# EAGLE library part XC7S6-1FTGB196I (library XC7S6-1FTGB196I)
FPGA - Field Programmable Gate Array XC7S6-1FTGB196I Source: Datasheet
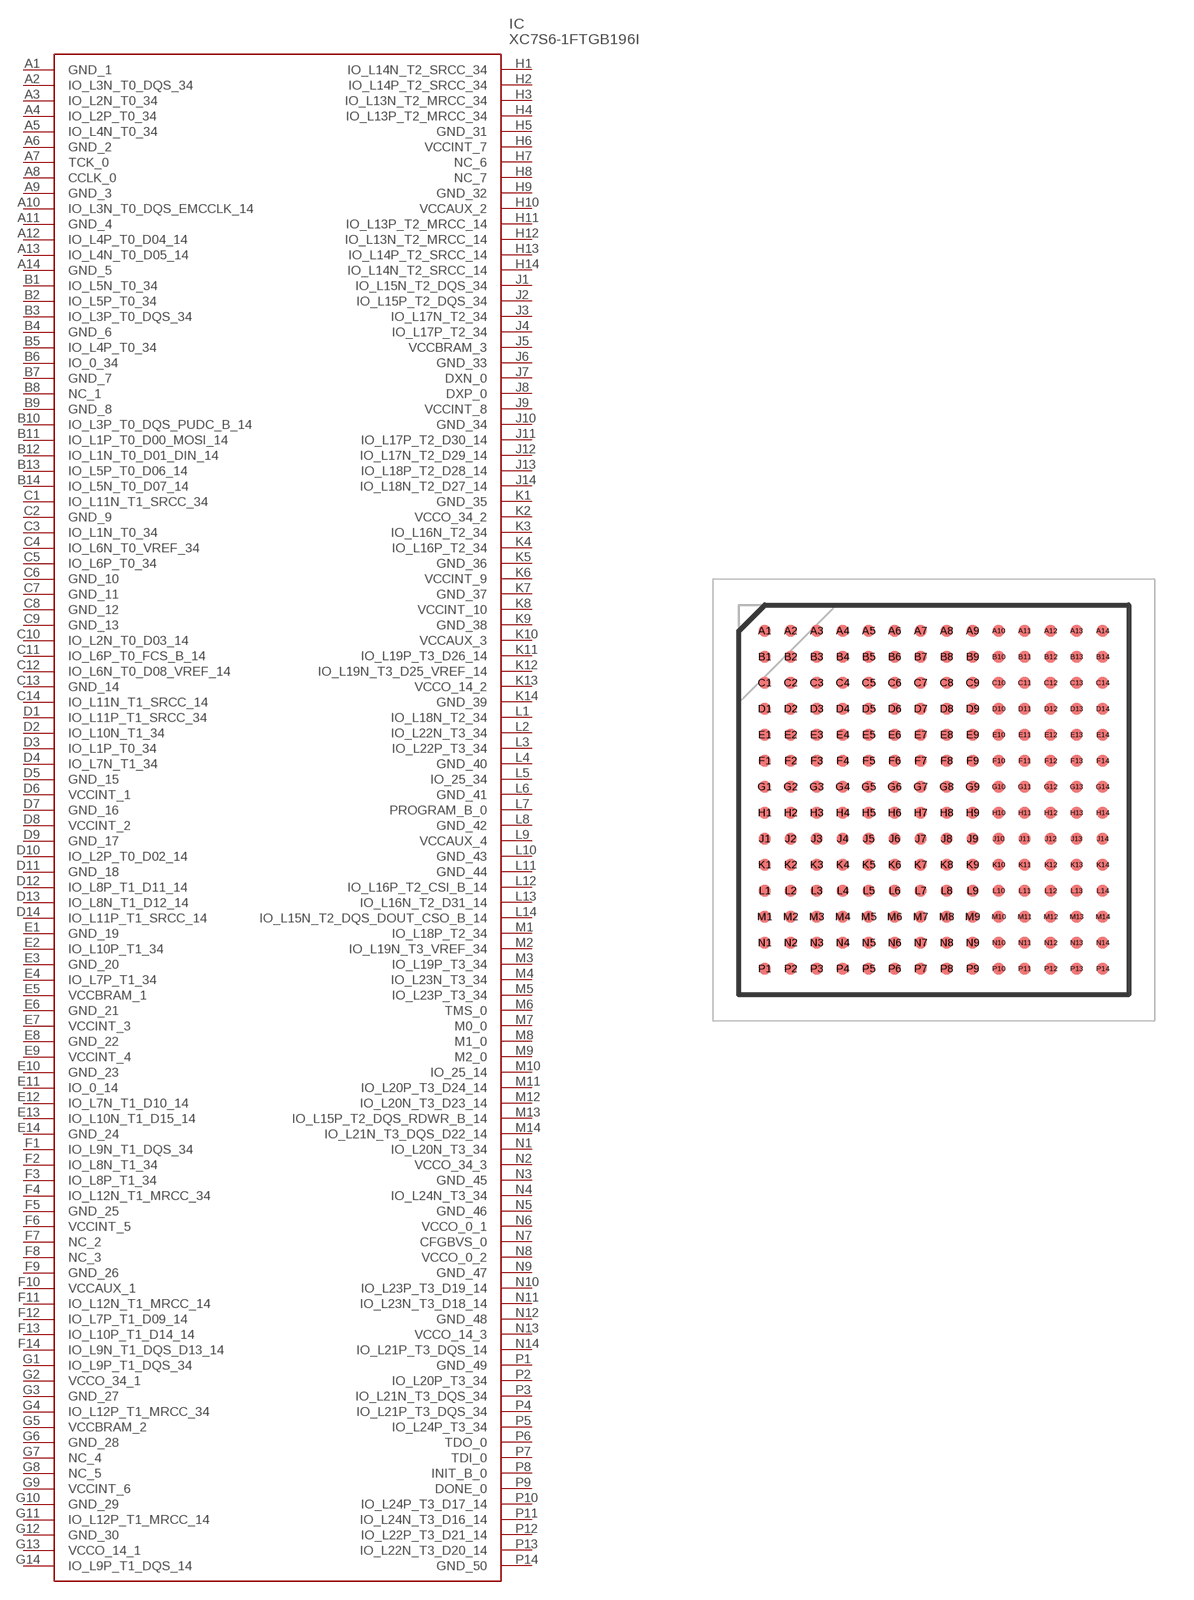
[diagram p0: symbol with the pads of BGA196C100P14X14_1500X1500X155; footprint BGA196C100P14X14_1500X1500X155]

Designator prefix IC

## XC7S6-1FTGB196I (Description: FPGA - Field Programmable Gate Array XC7S6-1FTGB196I; Height: 1.55mm; Manufacturer_Name: AMD; Manufacturer_Part_Number: XC7S6-1FTGB196I; Mouser_Part_Number: 217-XC7S6-1FTGB196I; Mouser_Price-Stock: https://www.mouser.co.uk/ProductDetail/Xilinx/XC7S6-1FTGB196I?qs=unwgFEO1A6sPesSVAJGsyw%3D%3D)  [BGA196C100P14X14_1500X1500X155]
A1  GND_1
A2  IO_L3N_T0_DQS_34
A3  IO_L2N_T0_34
A4  IO_L2P_T0_34
A5  IO_L4N_T0_34
A6  GND_2
A7  TCK_0
A8  CCLK_0
A9  GND_3
A10  IO_L3N_T0_DQS_EMCCLK_14
A11  GND_4
A12  IO_L4P_T0_D04_14
A13  IO_L4N_T0_D05_14
A14  GND_5
B1  IO_L5N_T0_34
B2  IO_L5P_T0_34
B3  IO_L3P_T0_DQS_34
B4  GND_6
B5  IO_L4P_T0_34
B6  IO_0_34
B7  GND_7
B8  NC_1
B9  GND_8
B10  IO_L3P_T0_DQS_PUDC_B_14
B11  IO_L1P_T0_D00_MOSI_14
B12  IO_L1N_T0_D01_DIN_14
B13  IO_L5P_T0_D06_14
B14  IO_L5N_T0_D07_14
C1  IO_L11N_T1_SRCC_34
C2  GND_9
C3  IO_L1N_T0_34
C4  IO_L6N_T0_VREF_34
C5  IO_L6P_T0_34
C6  GND_10
C7  GND_11
C8  GND_12
C9  GND_13
C10  IO_L2N_T0_D03_14
C11  IO_L6P_T0_FCS_B_14
C12  IO_L6N_T0_D08_VREF_14
C13  GND_14
C14  IO_L11N_T1_SRCC_14
D1  IO_L11P_T1_SRCC_34
D2  IO_L10N_T1_34
D3  IO_L1P_T0_34
D4  IO_L7N_T1_34
D5  GND_15
D6  VCCINT_1
D7  GND_16
D8  VCCINT_2
D9  GND_17
D10  IO_L2P_T0_D02_14
D11  GND_18
D12  IO_L8P_T1_D11_14
D13  IO_L8N_T1_D12_14
D14  IO_L11P_T1_SRCC_14
E1  GND_19
E2  IO_L10P_T1_34
E3  GND_20
E4  IO_L7P_T1_34
E5  VCCBRAM_1
E6  GND_21
E7  VCCINT_3
E8  GND_22
E9  VCCINT_4
E10  GND_23
E11  IO_0_14
E12  IO_L7N_T1_D10_14
E13  IO_L10N_T1_D15_14
E14  GND_24
F1  IO_L9N_T1_DQS_34
F2  IO_L8N_T1_34
F3  IO_L8P_T1_34
F4  IO_L12N_T1_MRCC_34
F5  GND_25
F6  VCCINT_5
F7  NC_2
F8  NC_3
F9  GND_26
F10  VCCAUX_1
F11  IO_L12N_T1_MRCC_14
F12  IO_L7P_T1_D09_14
F13  IO_L10P_T1_D14_14
F14  IO_L9N_T1_DQS_D13_14
G1  IO_L9P_T1_DQS_34
G2  VCCO_34_1
G3  GND_27
G4  IO_L12P_T1_MRCC_34
G5  VCCBRAM_2
G6  GND_28
G7  NC_4
G8  NC_5
G9  VCCINT_6
G10  GND_29
G11  IO_L12P_T1_MRCC_14
G12  GND_30
G13  VCCO_14_1
G14  IO_L9P_T1_DQS_14
H1  IO_L14N_T2_SRCC_34
H2  IO_L14P_T2_SRCC_34
H3  IO_L13N_T2_MRCC_34
H4  IO_L13P_T2_MRCC_34
H5  GND_31
H6  VCCINT_7
H7  NC_6
H8  NC_7
H9  GND_32
H10  VCCAUX_2
H11  IO_L13P_T2_MRCC_14
H12  IO_L13N_T2_MRCC_14
H13  IO_L14P_T2_SRCC_14
H14  IO_L14N_T2_SRCC_14
J1  IO_L15N_T2_DQS_34
J2  IO_L15P_T2_DQS_34
J3  IO_L17N_T2_34
J4  IO_L17P_T2_34
J5  VCCBRAM_3
J6  GND_33
J7  DXN_0
J8  DXP_0
J9  VCCINT_8
J10  GND_34
J11  IO_L17P_T2_D30_14
J12  IO_L17N_T2_D29_14
J13  IO_L18P_T2_D28_14
J14  IO_L18N_T2_D27_14
K1  GND_35
K2  VCCO_34_2
K3  IO_L16N_T2_34
K4  IO_L16P_T2_34
K5  GND_36
K6  VCCINT_9
K7  GND_37
K8  VCCINT_10
K9  GND_38
K10  VCCAUX_3
K11  IO_L19P_T3_D26_14
K12  IO_L19N_T3_D25_VREF_14
K13  VCCO_14_2
K14  GND_39
L1  IO_L18N_T2_34
L2  IO_L22N_T3_34
L3  IO_L22P_T3_34
L4  GND_40
L5  IO_25_34
L6  GND_41
L7  PROGRAM_B_0
L8  GND_42
L9  VCCAUX_4
L10  GND_43
L11  GND_44
L12  IO_L16P_T2_CSI_B_14
L13  IO_L16N_T2_D31_14
L14  IO_L15N_T2_DQS_DOUT_CSO_B_14
M1  IO_L18P_T2_34
M2  IO_L19N_T3_VREF_34
M3  IO_L19P_T3_34
M4  IO_L23N_T3_34
M5  IO_L23P_T3_34
M6  TMS_0
M7  M0_0
M8  M1_0
M9  M2_0
M10  IO_25_14
M11  IO_L20P_T3_D24_14
M12  IO_L20N_T3_D23_14
M13  IO_L15P_T2_DQS_RDWR_B_14
M14  IO_L21N_T3_DQS_D22_14
N1  IO_L20N_T3_34
N2  VCCO_34_3
N3  GND_45
N4  IO_L24N_T3_34
N5  GND_46
N6  VCCO_0_1
N7  CFGBVS_0
N8  VCCO_0_2
N9  GND_47
N10  IO_L23P_T3_D19_14
N11  IO_L23N_T3_D18_14
N12  GND_48
N13  VCCO_14_3
N14  IO_L21P_T3_DQS_14
P1  GND_49
P2  IO_L20P_T3_34
P3  IO_L21N_T3_DQS_34
P4  IO_L21P_T3_DQS_34
P5  IO_L24P_T3_34
P6  TDO_0
P7  TDI_0
P8  INIT_B_0
P9  DONE_0
P10  IO_L24P_T3_D17_14
P11  IO_L24N_T3_D16_14
P12  IO_L22P_T3_D21_14
P13  IO_L22N_T3_D20_14
P14  GND_50

## Footprint BGA196C100P14X14_1500X1500X155 (pad centres in mm)
196 FTBGA
smd 0.45 x 0.45: A1 -6.5,6.5; A2 -5.5,6.5; A3 -4.5,6.5; A4 -3.5,6.5; A5 -2.5,6.5; A6 -1.5,6.5; A7 -0.5,6.5; A8 0.5,6.5; A9 1.5,6.5; A10 2.5,6.5; A11 3.5,6.5; A12 4.5,6.5; A13 5.5,6.5; A14 6.5,6.5; B1 -6.5,5.5; B2 -5.5,5.5; B3 -4.5,5.5; B4 -3.5,5.5; B5 -2.5,5.5; B6 -1.5,5.5; B7 -0.5,5.5; B8 0.5,5.5; B9 1.5,5.5; B10 2.5,5.5; B11 3.5,5.5; B12 4.5,5.5; B13 5.5,5.5; B14 6.5,5.5; C1 -6.5,4.5; C2 -5.5,4.5; C3 -4.5,4.5; C4 -3.5,4.5; C5 -2.5,4.5; C6 -1.5,4.5; C7 -0.5,4.5; C8 0.5,4.5; C9 1.5,4.5; C10 2.5,4.5; C11 3.5,4.5; C12 4.5,4.5; C13 5.5,4.5; C14 6.5,4.5; D1 -6.5,3.5; D2 -5.5,3.5; D3 -4.5,3.5; D4 -3.5,3.5; D5 -2.5,3.5; D6 -1.5,3.5; D7 -0.5,3.5; D8 0.5,3.5; D9 1.5,3.5; D10 2.5,3.5; D11 3.5,3.5; D12 4.5,3.5; D13 5.5,3.5; D14 6.5,3.5; E1 -6.5,2.5; E2 -5.5,2.5; E3 -4.5,2.5; E4 -3.5,2.5; E5 -2.5,2.5; E6 -1.5,2.5; E7 -0.5,2.5; E8 0.5,2.5; E9 1.5,2.5; E10 2.5,2.5; E11 3.5,2.5; E12 4.5,2.5; E13 5.5,2.5; E14 6.5,2.5; F1 -6.5,1.5; F2 -5.5,1.5; F3 -4.5,1.5; F4 -3.5,1.5; F5 -2.5,1.5; F6 -1.5,1.5; F7 -0.5,1.5; F8 0.5,1.5; F9 1.5,1.5; F10 2.5,1.5; F11 3.5,1.5; F12 4.5,1.5; F13 5.5,1.5; F14 6.5,1.5; G1 -6.5,0.5; G2 -5.5,0.5; G3 -4.5,0.5; G4 -3.5,0.5; G5 -2.5,0.5; G6 -1.5,0.5; G7 -0.5,0.5; G8 0.5,0.5; G9 1.5,0.5; G10 2.5,0.5; G11 3.5,0.5; G12 4.5,0.5; G13 5.5,0.5; G14 6.5,0.5; H1 -6.5,-0.5; H2 -5.5,-0.5; H3 -4.5,-0.5; H4 -3.5,-0.5; H5 -2.5,-0.5; H6 -1.5,-0.5; H7 -0.5,-0.5; H8 0.5,-0.5; H9 1.5,-0.5; H10 2.5,-0.5; H11 3.5,-0.5; H12 4.5,-0.5; H13 5.5,-0.5; H14 6.5,-0.5; J1 -6.5,-1.5; J2 -5.5,-1.5; J3 -4.5,-1.5; J4 -3.5,-1.5; J5 -2.5,-1.5; J6 -1.5,-1.5; J7 -0.5,-1.5; J8 0.5,-1.5; J9 1.5,-1.5; J10 2.5,-1.5; J11 3.5,-1.5; J12 4.5,-1.5; J13 5.5,-1.5; J14 6.5,-1.5; K1 -6.5,-2.5; K2 -5.5,-2.5; K3 -4.5,-2.5; K4 -3.5,-2.5; K5 -2.5,-2.5; K6 -1.5,-2.5; K7 -0.5,-2.5; K8 0.5,-2.5; K9 1.5,-2.5; K10 2.5,-2.5; K11 3.5,-2.5; K12 4.5,-2.5; K13 5.5,-2.5; K14 6.5,-2.5; L1 -6.5,-3.5; L2 -5.5,-3.5; L3 -4.5,-3.5; L4 -3.5,-3.5; L5 -2.5,-3.5; L6 -1.5,-3.5; L7 -0.5,-3.5; L8 0.5,-3.5; L9 1.5,-3.5; L10 2.5,-3.5; L11 3.5,-3.5; L12 4.5,-3.5; L13 5.5,-3.5; L14 6.5,-3.5; M1 -6.5,-4.5; M2 -5.5,-4.5; M3 -4.5,-4.5; M4 -3.5,-4.5; M5 -2.5,-4.5; M6 -1.5,-4.5; M7 -0.5,-4.5; M8 0.5,-4.5; M9 1.5,-4.5; M10 2.5,-4.5; M11 3.5,-4.5; M12 4.5,-4.5; M13 5.5,-4.5; M14 6.5,-4.5; N1 -6.5,-5.5; N2 -5.5,-5.5; N3 -4.5,-5.5; N4 -3.5,-5.5; N5 -2.5,-5.5; N6 -1.5,-5.5; N7 -0.5,-5.5; N8 0.5,-5.5; N9 1.5,-5.5; N10 2.5,-5.5; N11 3.5,-5.5; N12 4.5,-5.5; N13 5.5,-5.5; N14 6.5,-5.5; P1 -6.5,-6.5; P2 -5.5,-6.5; P3 -4.5,-6.5; P4 -3.5,-6.5; P5 -2.5,-6.5; P6 -1.5,-6.5; P7 -0.5,-6.5; P8 0.5,-6.5; P9 1.5,-6.5; P10 2.5,-6.5; P11 3.5,-6.5; P12 4.5,-6.5; P13 5.5,-6.5; P14 6.5,-6.5